# EAGLE library part OPA277 (library op-amp)
OP-AMP
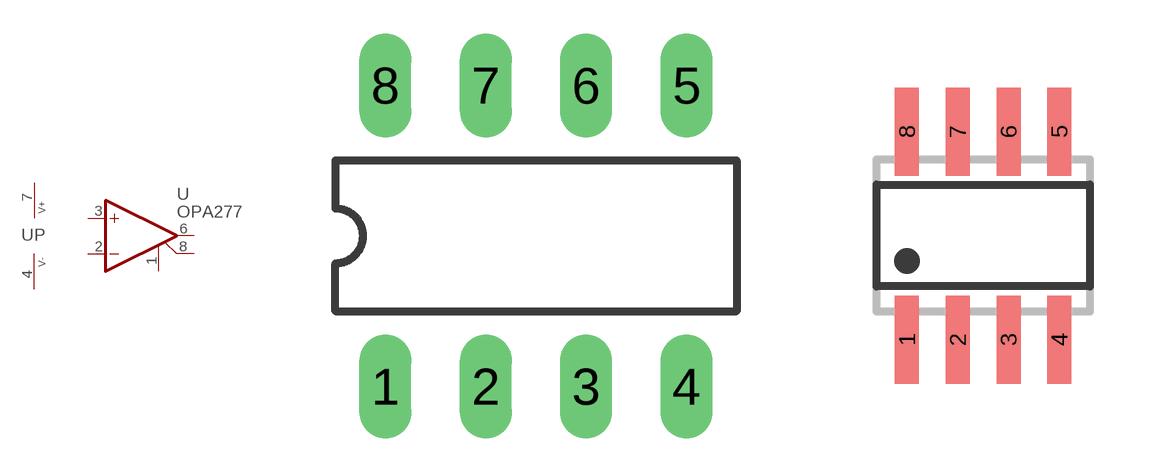
[diagram p62: symbol with the pads of DIL08; footprints DIL08, SO08]

Designator prefix U; gates P=PWR+- G$2=_OFFNULL2 G$1=OPAMP_PV

## OPA277P  [DIL08]
1  G$2:NULL1  pas
2  G$1:-IN  in
3  G$1:+IN  in
4  P:V-  pwr
6  G$1:OUT  out
7  P:V+  pwr
8  G$2:NULL2  pas

## OPA277U  [SO08]
Pads as for DIL08

## OPA277DRM  [VSON8]
Pads as for DIL08

## Footprint DIL08 (pad centres in mm)
Dual In Line Package
drill 0.813 long: 1 -3.81,-3.81; 2 -1.27,-3.81; 3 1.27,-3.81; 4 3.81,-3.81; 5 3.81,3.81; 6 1.27,3.81; 7 -1.27,3.81; 8 -3.81,3.81

## Footprint SO08 (pad centres in mm)
SMALL OUTLINE INTEGRATED CIRCUIT body 3.9 mm/JEDEC MS-012AA
smd 0.6 x 2.2: 1 -1.905,-2.6; 2 -0.635,-2.6; 3 0.635,-2.6; 4 1.905,-2.6; 5 1.905,2.6; 6 0.635,2.6; 7 -0.635,2.6; 8 -1.905,2.6

## Footprint VSON8 (pad centres in mm)
VSON-8
smd 0.35 x 0.85: 1 -1.2,-1.975; 2 -0.4,-1.975; 3 0.4,-1.975; 4 1.2,-1.975; 5 1.2,1.975; 6 0.4,1.975; 7 -0.4,1.975; 8 -1.2,1.975